# Altium schematic symbol library testpoint1.SchLib: 1 symbol
Pins are listed as number, name and electrical type; pins without a type are passive.

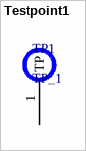
[diagram p0: symbol Testpoint1]

## Testpoint1
designator TP1, comment TP_1  (no BOM)
footprint Testpoint1
pins: 1 TP